# Altium footprint library TE_9-966140-1.PcbLib: 1 footprints
Each footprint in its own frame and in the unit in brackets; x right, y up, seen from the top. Pads: shape width x height; smd on the part's side, far side on the other; paste and mask are expansions set on the pad; w line width, h text height; cw(c..) or ccw(c..) is an arc to the next point about the centre after c.
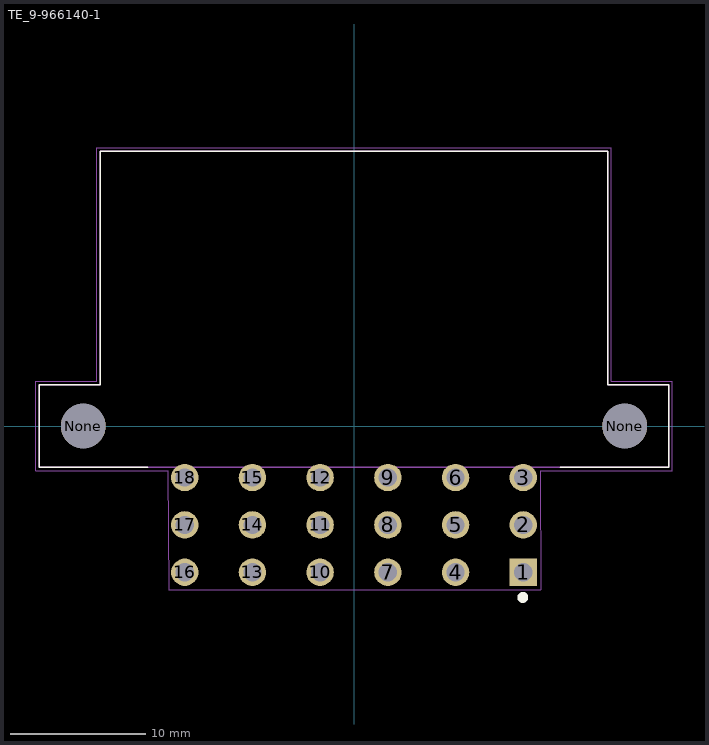
[diagram p0: the footprint, top view; thin cyan lines are the x and y axes]

## TE_9-966140-1 [mm]
pads (20):
  rect 2.025x2.025 hole 1.35: 1(12.5,-10.8)
  round 2.025 hole 1.35: 2(12.5,-7.3) 3(12.5,-3.8) 4(7.5,-10.8) 5(7.5,-7.3) 6(7.5,-3.8) 7(2.5,-10.8) 8(2.5,-7.3) 9(2.5,-3.8) 10(-2.5,-10.8) 11(-2.5,-7.3) 12(-2.5,-3.8) 13(-7.5,-10.8) 14(-7.5,-7.3) 15(-7.5,-3.8) 16(-12.5,-10.8) 17(-12.5,-7.3) 18(-12.5,-3.8)
  round 3.3 hole 3.3 unplated: None(-20,0) None(20,0)
Top Overlay:
  circle w0.4: c12.467,-12.658 r0.2
  lines w0.127: -15.25,-3.05 -23.25,-3.05 -23.25,3.048 -18.75,3.048 -18.75,20.3 18.75,20.3 18.75,3.051 23.25,3.051 23.25,-3.049 15.25,-3.049 15.25,-3.05
Mechanical 13:
  lines w0.127: -23.25,-3.05 -23.25,3.05 ; -23.25,-3.05 23.25,-3.05 ; -23.25,-3.05 -23.25,3.05 ; -23.25,-3.05 23.25,-3.05 ; -23.25,3.05 -18.75,3.05 ; -23.25,3.05 -18.75,3.05 ; -18.75,3.05 -18.75,20.3 ; -18.75,3.05 -18.75,20.3 ; -18.75,20.3 18.75,20.3 ; -18.75,20.3 18.75,20.3 ; 18.75,3.05 18.75,20.3 ; 18.75,3.05 23.25,3.05 ; 18.75,3.05 18.75,20.3 ; 18.75,3.05 23.25,3.05 ; 23.25,-3.05 23.25,3.05 ; 23.25,-3.05 23.25,3.05
Mechanical 15:
  lines w0.05: -23.5,-3.3 -13.75,-3.3 -13.7,-12.1 13.8,-12.1 13.75,-3.3 23.5,-3.3 23.5,3.3 19,3.3 19,20.55 -19,20.55 -19,3.3 -23.5,3.3 -23.5,-3.3
3D body "c-9-966140-1-f-3d.stp": height 25.7, standoff -3, extent -23.001,-11.125 22.849,19.775